# Altium footprint library Omron_Switches.PcbLib: 3 footprints
Each footprint in its own frame and in the unit in brackets; x right, y up, seen from the top. Pads: shape width x height; smd on the part's side, far side on the other; paste and mask are expansions set on the pad; w line width, h text height; cw(c..) or ccw(c..) is an arc to the next point about the centre after c.
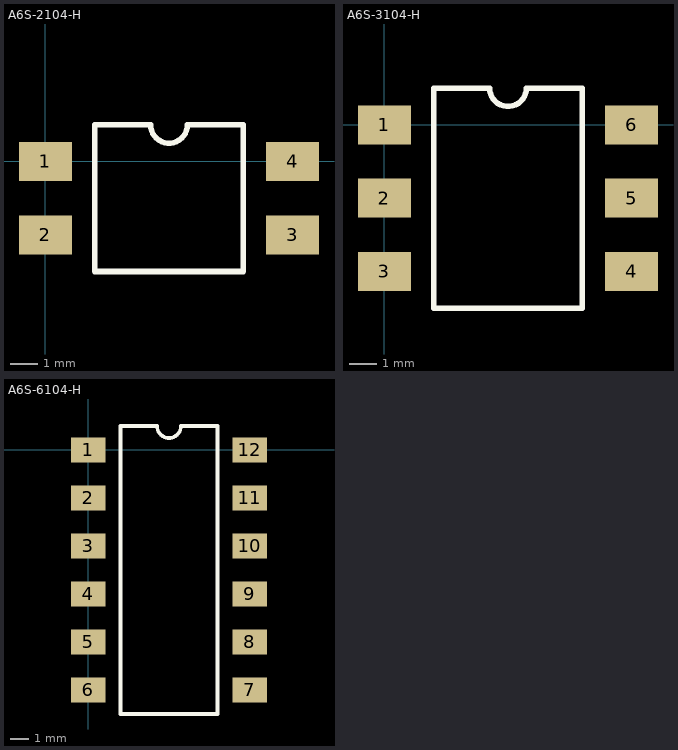
[diagram p0: the footprints below, top view; thin cyan lines are the x and y axes]

## A6S-2104-H [mm]
pads (4):
  rect 1.9x1.4 smd: 1(0,0) 2(0,-2.64) 3(8.9,-2.64) 4(8.9,0)
Top Overlay:
  lines w0.2: 1.785,-3.96 7.115,-3.96 7.115,1.32 5.11,1.32 cw(c4.45,1.32) 3.79,1.32 1.785,1.32 1.785,-3.96

## A6S-3104-H [mm]
pads (6):
  rect 1.9x1.4 smd: 1(0,0) 2(0,-2.64) 3(0,-5.28) 4(8.9,-5.28) 5(8.9,-2.64) 6(8.9,0)
Top Overlay:
  lines w0.2: 1.785,-6.6 7.115,-6.6 7.115,1.32 5.11,1.32 cw(c4.45,1.32) 3.79,1.32 1.785,1.32 1.785,-6.6

## A6S-6104-H [mm]
pads (12):
  rect 1.9x1.4 smd: 1(0,0) 2(0,-2.64) 3(0,-5.28) 4(0,-7.92) 5(0,-10.56) 6(0,-13.2) 7(8.9,-13.2) 8(8.9,-10.56) 9(8.9,-7.92) 10(8.9,-5.28) 11(8.9,-2.64) 12(8.9,0)
Top Overlay:
  lines w0.2: 1.785,-14.52 1.785,1.32 3.79,1.32 ccw(c4.45,1.32) 5.11,1.32 7.115,1.32 7.115,-14.52 1.785,-14.52